# Altium footprint library Res_Stackpole_CF14JT10K0_eec_0.PcbLib: 1 footprints
Each footprint in its own frame and in the unit in brackets; x right, y up, seen from the top. Pads: shape width x height; smd on the part's side, far side on the other; paste and mask are expansions set on the pad; w line width, h text height; cw(c..) or ccw(c..) is an arc to the next point about the centre after c.
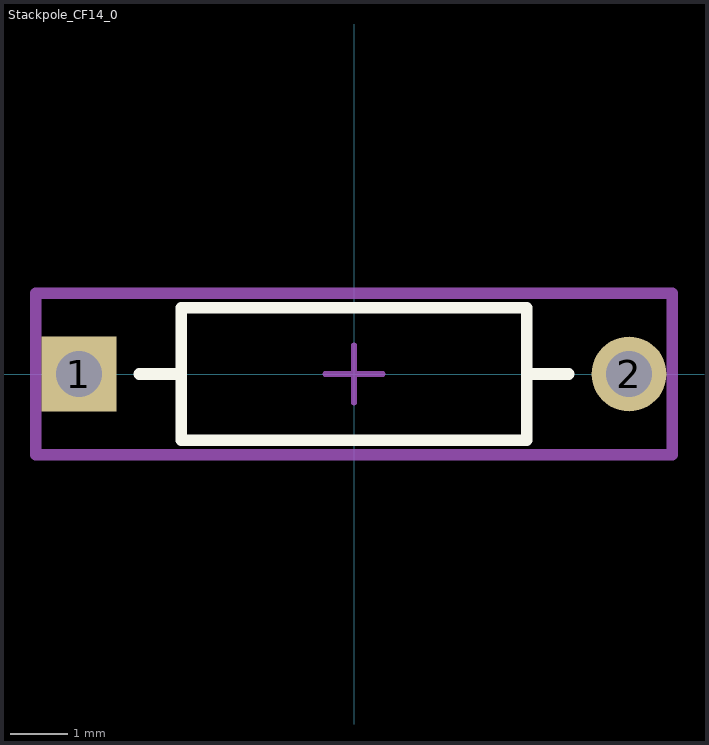
[diagram p0: the footprint, top view; thin cyan lines are the x and y axes]

## Stackpole_CF14_0 [mm]
pads (2):
  rect 1.3x1.3 hole 0.8 paste-1000 mask+0: 1(-4.78,0)
  round 1.3 hole 0.8 paste-1000 mask+0: 2(4.78,0)
Top Overlay:
  lines w0.2: -3.73,0 -3,0 ; 3,0 3.73,0 ; -3,-1.15 3,-1.15 3,1.15 -3,1.15 -3,-1.15
Mechanical 10:
  lines w0.2: -5.53,-1.4 5.53,-1.4 5.53,1.4 -5.53,1.4 -5.53,-1.4
  text ".Designator" at 0,0 h1
Mechanical 12:
  lines w0.15: -3,-1.15 3,-1.15 3,1.15 -3,1.15 -3,-1.15
Mechanical 15:
  lines w0.1: -0.5,0 0.5,0 ; 0,-0.5 0,0.5
  lines w0.2: -5.53,-1.4 5.53,-1.4 5.53,1.4 -5.53,1.4 -5.53,-1.4
3D body "Res_Stackpole_CF14JT10K0_eec.STEP": height 0.25, standoff 0, extent -5.53,-1.4 5.53,1.4